# Altium schematic symbol library BUFFER_GATE.SchLib: 1 symbol
Pins are listed as number, name and electrical type; pins without a type are passive.

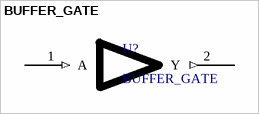
[diagram p0: symbol BUFFER_GATE]

## BUFFER_GATE
designator U?
Buffer gate symbol
pins: 1 A (in), 2 Y (out)